# Altium schematic symbol library BibliotekaAnalog.SchLib: 2 symbols
Pins are listed as number, name and electrical type; pins without a type are passive.

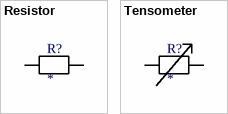
[diagram p0: symbols Resistor to Tensometer]

## Resistor
designator R?
pins: 1, 2

## Tensometer
designator R?
pins: 1, 2